# EAGLE library part KK156-11_S (library con-molex-kk)
HEADER
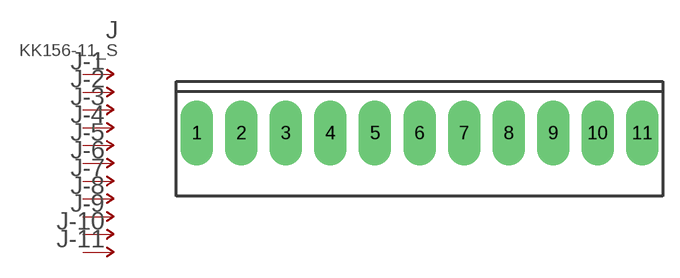
[diagram p171: symbol with the pads of KK156-11; footprint KK156-11]

Designator prefix J; gates -1=P-NV -2=P-N -3=P-N -4=P-N -5=P-N -6=P-N -7=P-N -8=P-N -9=P-N -10=P-N -11=P-N

## KK156-11_S  [KK156-11]
1  -1:P  pas
2  -2:P  pas
3  -3:P  pas
4  -4:P  pas
5  -5:P  pas
6  -6:P  pas
7  -7:P  pas
8  -8:P  pas
9  -9:P  pas
10  -10:P  pas
11  -11:P  pas

## Footprint KK156-11 (pad centres in mm)
HEADER - 0.156" SPOX 5273 Series
drill 1.93 long: 1 -19.812,0; 2 -15.85,0; 3 -11.887,0; 4 -7.925,0; 5 -3.962,0; 6 0,0; 7 3.962,0; 8 7.925,0; 9 11.887,0; 10 15.85,0; 11 19.812,0